# Altium footprint library Header_TE_Connectivity_1586041-8_8POS.PcbLib: 1 footprints
Each footprint in its own frame and in the unit in brackets; x right, y up, seen from the top. Pads: shape width x height; smd on the part's side, far side on the other; paste and mask are expansions set on the pad; w line width, h text height; cw(c..) or ccw(c..) is an arc to the next point about the centre after c.
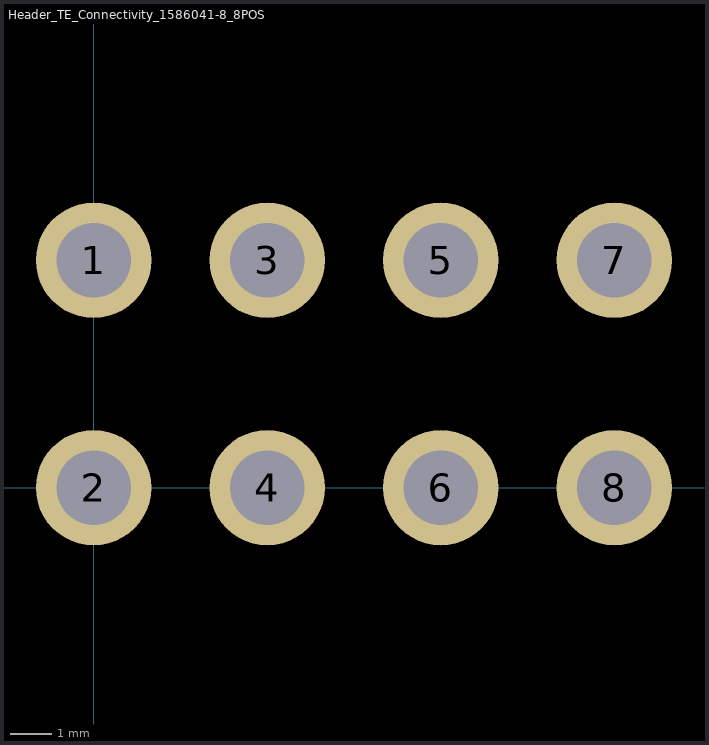
[diagram p0: the footprint, top view; thin cyan lines are the x and y axes]

## Header_TE_Connectivity_1586041-8_8POS [mm]
pads (8):
  round 2.794 hole 1.8: 1(0,5.5) 2(0,0) 3(4.2,5.5) 4(4.2,0) 5(8.4,5.5) 6(8.4,0) 7(12.6,5.5) 8(12.6,0)
3D body "c-1586041-8-b-3d.stp": height 11.6, standoff -3.2, extent -2.616,-14.082 15.884,6.053